# EAGLE library part UART_TO_USB (library PIC)
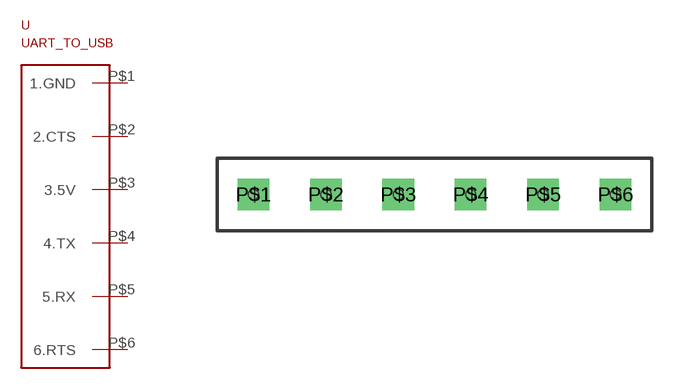
[diagram p1: symbol with the pads of UART_TO_USB; footprint UART_TO_USB]

Designator prefix -

## UART_TO_USB  [UART_TO_USB]
P$1  1.GND
P$2  2.CTS
P$3  3.5V
P$4  4.TX
P$5  5.RX
P$6  6.RTS

## Footprint UART_TO_USB (pad centres in mm)
drill 0.6 square: P$1 0,0; P$2 2.54,0; P$3 5.08,0; P$4 7.62,0; P$5 10.16,0; P$6 12.7,0
hole 0.35 at 0,0
hole 0.35 at 2.54,0
hole 0.35 at 5.08,0
hole 0.35 at 7.62,0
hole 0.35 at 10.16,0
hole 0.35 at 12.7,0